# EAGLE library part MAX3420E (library 00shaunc)
USB Peripheral Controller with SPI Interface
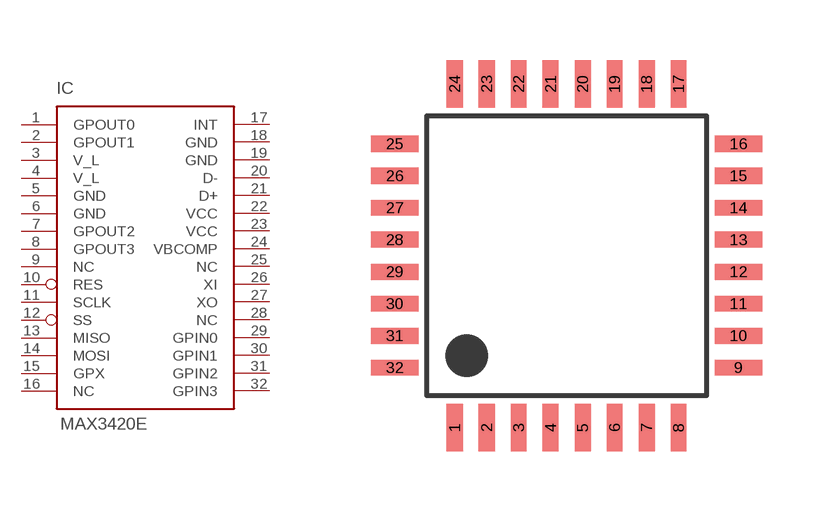
[diagram p0: symbol with the pads of LQFP32; footprint LQFP32]

Designator prefix IC

## MAX3420E  [LQFP32]
1  GPOUT0
2  GPOUT1
3  V_L
4  V_L
5  GND
6  GND
7  GPOUT2
8  GPOUT3
9  NC  nc
10  RES
11  SCLK
12  SS
13  MISO
14  MOSI
15  GPX
16  NC
17  INT
18  GND
19  GND
20  D-
21  D+
22  VCC
23  VCC
24  VBCOMP
25  NC
26  XI
27  XO
28  NC
29  GPIN0
30  GPIN1
31  GPIN2
32  GPIN3

## Footprint LQFP32 (pad centres in mm)
LQFP-32 package 7x7 mm case, 0.8 mm lead pitch
smd 0.4 x 1.2: 1 -2.8,-4.3; 2 -2,-4.3; 3 -1.2,-4.3; 4 -0.4,-4.3; 5 0.4,-4.3; 6 1.2,-4.3; 7 2,-4.3; 8 2.8,-4.3; 17 2.8,4.3; 18 2,4.3; 19 1.2,4.3; 20 0.4,4.3; 21 -0.4,4.3; 22 -1.2,4.3; 23 -2,4.3; 24 -2.8,4.3
smd 1.2 x 0.4: 9 4.3,-2.8; 10 4.3,-2; 11 4.3,-1.2; 12 4.3,-0.4; 13 4.3,0.4; 14 4.3,1.2; 15 4.3,2; 16 4.3,2.8; 25 -4.3,2.8; 26 -4.3,2; 27 -4.3,1.2; 28 -4.3,0.4; 29 -4.3,-0.4; 30 -4.3,-1.2; 31 -4.3,-2; 32 -4.3,-2.8